# Altium schematic symbol library 2SC5876.Schlib: 1 symbol
Pins are listed as number, name and electrical type; pins without a type are passive.

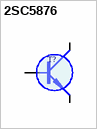
[diagram p0: symbol 2SC5876]

## 2SC5876
designator T?
SOT323   60V 0.5A 300MHz    5p (10V) 2SA2088)
pins: 1 B, 2 E (oe), 3 C (oc)
1 alternate drawing of the same symbol